# Altium schematic symbol library WR-TBL_Rising Cage Clamp.SchLib: 433 symbols (part 4 of 8)
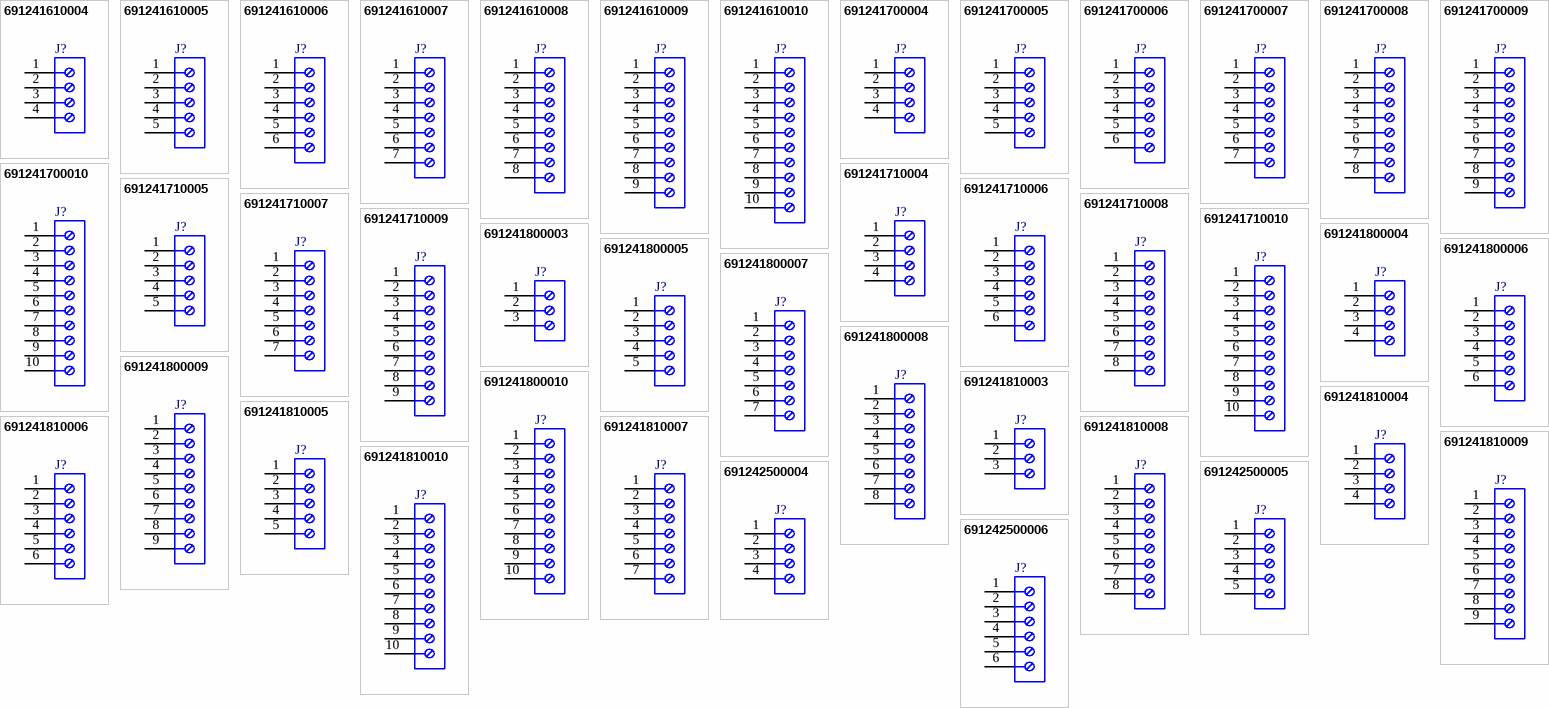
[diagram p13: symbols 691241610004 to 691242500006]

## 691241800006
designator J?  (value not drawn)
WR-TBL Series 2418 Vertical Entry, THT, pitch 10mm, 06p; Manufacturer: Wurth Elektronik; Modularity: No; Rated Current: 14A; Wire Section: 14 to 30 (AWG) 2.08 to 0.0509 (mm^2); Working Voltage: 300V (AC); Manufacturer Part Number: 691241800006; Product Series: WR-TBL; ComponentLink1Description: Website Link; ComponentLink1URL: https://www.we-online.com; ComponentLink2Description: Datasheet Link; ComponentLink2URL: https://www.we-online.com/components/products/datasheet/691241800006; Mount: Through Hole; Operating Temperature Min: -30degC; Operating Temperature Max: 120degC; Packaging: Box; Application: Rising Cage Clamp; Number of Pins: 6; Number of Rows: 1; Orientation: Vertical; Lead Pitch: 10mm
footprint 691241800006
pins: 1, 2, 3, 4, 5, 6

## 691241800007
designator J?  (value not drawn)
WR-TBL Series 2418 Vertical Entry, THT, pitch 10mm, 07p; Manufacturer: Wurth Elektronik; Modularity: No; Rated Current: 14A; Wire Section: 14 to 30 (AWG) 2.08 to 0.0509 (mm^2); Working Voltage: 300V (AC); Manufacturer Part Number: 691241800007; Product Series: WR-TBL; ComponentLink1Description: Website Link; ComponentLink1URL: https://www.we-online.com; ComponentLink2Description: Datasheet Link; ComponentLink2URL: https://www.we-online.com/components/products/datasheet/691241800007; Mount: Through Hole; Operating Temperature Min: -30degC; Operating Temperature Max: 120degC; Packaging: Box; Application: Rising Cage Clamp; Number of Pins: 7; Number of Rows: 1; Orientation: Vertical; Lead Pitch: 10mm
footprint 691241800007
pins: 1, 2, 3, 4, 5, 6, 7

## 691241800008
designator J?  (value not drawn)
WR-TBL Series 2418 Vertical Entry, THT, pitch 10mm, 08p; Manufacturer: Wurth Elektronik; Modularity: No; Rated Current: 14A; Wire Section: 14 to 30 (AWG) 2.08 to 0.0509 (mm^2); Working Voltage: 300V (AC); Manufacturer Part Number: 691241800008; Product Series: WR-TBL; ComponentLink1Description: Website Link; ComponentLink1URL: https://www.we-online.com; ComponentLink2Description: Datasheet Link; ComponentLink2URL: https://www.we-online.com/components/products/datasheet/691241800008; Mount: Through Hole; Operating Temperature Min: -30degC; Operating Temperature Max: 120degC; Packaging: Box; Application: Rising Cage Clamp; Number of Pins: 8; Number of Rows: 1; Orientation: Vertical; Lead Pitch: 10mm
footprint 691241800008
pins: 1, 2, 3, 4, 5, 6, 7, 8

## 691241800009
designator J?  (value not drawn)
WR-TBL Series 2418 Vertical Entry, THT, pitch 10mm, 09p; Manufacturer: Wurth Elektronik; Modularity: No; Rated Current: 14A; Wire Section: 14 to 30 (AWG) 2.08 to 0.0509 (mm^2); Working Voltage: 300V (AC); Manufacturer Part Number: 691241800009; Product Series: WR-TBL; ComponentLink1Description: Website Link; ComponentLink1URL: https://www.we-online.com; ComponentLink2Description: Datasheet Link; ComponentLink2URL: https://www.we-online.com/components/products/datasheet/691241800009; Mount: Through Hole; Operating Temperature Min: -30degC; Operating Temperature Max: 120degC; Packaging: Box; Application: Rising Cage Clamp; Number of Pins: 9; Number of Rows: 1; Orientation: Vertical; Lead Pitch: 10mm
footprint 691241800009
pins: 1, 2, 3, 4, 5, 6, 7, 8, 9

## 691241800010
designator J?  (value not drawn)
WR-TBL Series 2418 Vertical Entry, THT, pitch 10mm, 10p; Manufacturer: Wurth Elektronik; Modularity: No; Rated Current: 14A; Wire Section: 14 to 30 (AWG) 2.08 to 0.0509 (mm^2); Working Voltage: 300V (AC); Manufacturer Part Number: 691241800010; Product Series: WR-TBL; ComponentLink1Description: Website Link; ComponentLink1URL: https://www.we-online.com; ComponentLink2Description: Datasheet Link; ComponentLink2URL: https://www.we-online.com/components/products/datasheet/691241800010; Mount: Through Hole; Operating Temperature Min: -30degC; Operating Temperature Max: 120degC; Packaging: Box; Application: Rising Cage Clamp; Number of Pins: 10; Number of Rows: 1; Orientation: Vertical; Lead Pitch: 10mm
footprint 691241800010
pins: 1, 2, 3, 4, 5, 6, 7, 8, 9, 10

## 691241810003
designator J?  (value not drawn)
WR-TBL Series 2418 Horizontal Entry, THT, pitch 10mm, 03p; Manufacturer: Wurth Elektronik; Modularity: No; Rated Current: 14A; Wire Section: 14 to 30 (AWG) 2.08 to 0.0509 (mm^2); Working Voltage: 300V (AC); Manufacturer Part Number: 691241810003; Product Series: WR-TBL; ComponentLink1Description: Website Link; ComponentLink1URL: https://www.we-online.com; ComponentLink2Description: Datasheet Link; ComponentLink2URL: https://www.we-online.com/components/products/datasheet/691241810003; Mount: Through Hole; Operating Temperature Min: -30degC; Operating Temperature Max: 120degC; Packaging: Box; Application: Rising Cage Clamp; Number of Pins: 3; Number of Rows: 1; Orientation: Horizontal; Lead Pitch: 10mm
footprint 691241810003
pins: 1, 2, 3

## 691241810004
designator J?  (value not drawn)
WR-TBL Series 2418 Horizontal Entry, THT, pitch 10mm, 04p; Manufacturer: Wurth Elektronik; Modularity: No; Rated Current: 14A; Wire Section: 14 to 30 (AWG) 2.08 to 0.0509 (mm^2); Working Voltage: 300V (AC); Manufacturer Part Number: 691241810004; Product Series: WR-TBL; ComponentLink1Description: Website Link; ComponentLink1URL: https://www.we-online.com; ComponentLink2Description: Datasheet Link; ComponentLink2URL: https://www.we-online.com/components/products/datasheet/691241810004; Mount: Through Hole; Operating Temperature Min: -30degC; Operating Temperature Max: 120degC; Packaging: Box; Application: Rising Cage Clamp; Number of Pins: 4; Number of Rows: 1; Orientation: Horizontal; Lead Pitch: 10mm
footprint 691241810004
pins: 1, 2, 3, 4

## 691241810005
designator J?  (value not drawn)
WR-TBL Series 2418 Horizontal Entry, THT, pitch 10mm, 05p; Manufacturer: Wurth Elektronik; Modularity: No; Rated Current: 14A; Wire Section: 14 to 30 (AWG) 2.08 to 0.0509 (mm^2); Working Voltage: 300V (AC); Manufacturer Part Number: 691241810005; Product Series: WR-TBL; ComponentLink1Description: Website Link; ComponentLink1URL: https://www.we-online.com; ComponentLink2Description: Datasheet Link; ComponentLink2URL: https://www.we-online.com/components/products/datasheet/691241810005; Mount: Through Hole; Operating Temperature Min: -30degC; Operating Temperature Max: 120degC; Packaging: Box; Application: Rising Cage Clamp; Number of Pins: 5; Number of Rows: 1; Orientation: Horizontal; Lead Pitch: 10mm
footprint 691241810005
pins: 1, 2, 3, 4, 5

## 691241810006
designator J?  (value not drawn)
WR-TBL Series 2418 Horizontal Entry, THT, pitch 10mm, 06p; Manufacturer: Wurth Elektronik; Modularity: No; Rated Current: 14A; Wire Section: 14 to 30 (AWG) 2.08 to 0.0509 (mm^2); Working Voltage: 300V (AC); Manufacturer Part Number: 691241810006; Product Series: WR-TBL; ComponentLink1Description: Website Link; ComponentLink1URL: https://www.we-online.com; ComponentLink2Description: Datasheet Link; ComponentLink2URL: https://www.we-online.com/components/products/datasheet/691241810006; Mount: Through Hole; Operating Temperature Min: -30degC; Operating Temperature Max: 120degC; Packaging: Box; Application: Rising Cage Clamp; Number of Pins: 6; Number of Rows: 1; Orientation: Horizontal; Lead Pitch: 10mm
footprint 691241810006
pins: 1, 2, 3, 4, 5, 6

## 691241810007
designator J?  (value not drawn)
WR-TBL Series 2418 Horizontal Entry, THT, pitch 10mm, 07p; Manufacturer: Wurth Elektronik; Modularity: No; Rated Current: 14A; Wire Section: 14 to 30 (AWG) 2.08 to 0.0509 (mm^2); Working Voltage: 300V (AC); Manufacturer Part Number: 691241810007; Product Series: WR-TBL; ComponentLink1Description: Website Link; ComponentLink1URL: https://www.we-online.com; ComponentLink2Description: Datasheet Link; ComponentLink2URL: https://www.we-online.com/components/products/datasheet/691241810007; Mount: Through Hole; Operating Temperature Min: -30degC; Operating Temperature Max: 120degC; Packaging: Box; Application: Rising Cage Clamp; Number of Pins: 7; Number of Rows: 1; Orientation: Horizontal; Lead Pitch: 10mm
footprint 691241810007
pins: 1, 2, 3, 4, 5, 6, 7

## 691241810008
designator J?  (value not drawn)
WR-TBL Series 2418 Horizontal Entry, THT, pitch 10mm, 08p; Manufacturer: Wurth Elektronik; Modularity: No; Rated Current: 14A; Wire Section: 14 to 30 (AWG) 2.08 to 0.0509 (mm^2); Working Voltage: 300V (AC); Manufacturer Part Number: 691241810008; Product Series: WR-TBL; ComponentLink1Description: Website Link; ComponentLink1URL: https://www.we-online.com; ComponentLink2Description: Datasheet Link; ComponentLink2URL: https://www.we-online.com/components/products/datasheet/691241810008; Mount: Through Hole; Operating Temperature Min: -30degC; Operating Temperature Max: 120degC; Packaging: Box; Application: Rising Cage Clamp; Number of Pins: 8; Number of Rows: 1; Orientation: Horizontal; Lead Pitch: 10mm
footprint 691241810008
pins: 1, 2, 3, 4, 5, 6, 7, 8

## 691241810009
designator J?  (value not drawn)
WR-TBL Series 2418 Horizontal Entry, THT, pitch 10mm, 09p; Manufacturer: Wurth Elektronik; Modularity: No; Rated Current: 14A; Wire Section: 14 to 30 (AWG) 2.08 to 0.0509 (mm^2); Working Voltage: 300V (AC); Manufacturer Part Number: 691241810009; Product Series: WR-TBL; ComponentLink1Description: Website Link; ComponentLink1URL: https://www.we-online.com; ComponentLink2Description: Datasheet Link; ComponentLink2URL: https://www.we-online.com/components/products/datasheet/691241810009; Mount: Through Hole; Operating Temperature Min: -30degC; Operating Temperature Max: 120degC; Packaging: Box; Application: Rising Cage Clamp; Number of Pins: 9; Number of Rows: 1; Orientation: Horizontal; Lead Pitch: 10mm
footprint 691241810009
pins: 1, 2, 3, 4, 5, 6, 7, 8, 9

## 691241810010
designator J?  (value not drawn)
WR-TBL Series 2418 Horizontal Entry, THT, pitch 10mm, 10p; Manufacturer: Wurth Elektronik; Modularity: No; Rated Current: 14A; Wire Section: 14 to 30 (AWG) 2.08 to 0.0509 (mm^2); Working Voltage: 300V (AC); Manufacturer Part Number: 691241810010; Product Series: WR-TBL; ComponentLink1Description: Website Link; ComponentLink1URL: https://www.we-online.com; ComponentLink2Description: Datasheet Link; ComponentLink2URL: https://www.we-online.com/components/products/datasheet/691241810010; Mount: Through Hole; Operating Temperature Min: -30degC; Operating Temperature Max: 120degC; Packaging: Box; Application: Rising Cage Clamp; Number of Pins: 10; Number of Rows: 1; Orientation: Horizontal; Lead Pitch: 10mm
footprint 691241810010
pins: 1, 2, 3, 4, 5, 6, 7, 8, 9, 10

## 691242500004
designator J?  (value not drawn)
WR-TBL Series 2425 Vertical Entry, THT, pitch 5.08mm, 04p; Manufacturer: Wurth Elektronik; Modularity: No; Rated Current: 14A; Wire Section: 12 to 30 (AWG) 3.31 to 0.0509 (mm^2); Working Voltage: 300V (AC); Manufacturer Part Number: 691242500004; Product Series: WR-TBL; ComponentLink1Description: Website Link; ComponentLink1URL: https://www.we-online.com; ComponentLink2Description: Datasheet Link; ComponentLink2URL: https://www.we-online.com/components/products/datasheet/691242500004; Mount: Through Hole; Operating Temperature Min: -30degC; Operating Temperature Max: 120degC; Packaging: Box; Application: Rising Cage Clamp; Number of Pins: 4; Number of Rows: 1; Orientation: Vertical; Lead Pitch: 5.08mm
footprint 691242500004
pins: 1, 2, 3, 4

## 691242500005
designator J?  (value not drawn)
WR-TBL Series 2425 Vertical Entry, THT, pitch 5.08mm, 05p; Manufacturer: Wurth Elektronik; Modularity: No; Rated Current: 14A; Wire Section: 12 to 30 (AWG) 3.31 to 0.0509 (mm^2); Working Voltage: 300V (AC); Manufacturer Part Number: 691242500005; Product Series: WR-TBL; ComponentLink1Description: Website Link; ComponentLink1URL: https://www.we-online.com; ComponentLink2Description: Datasheet Link; ComponentLink2URL: https://www.we-online.com/components/products/datasheet/691242500005; Mount: Through Hole; Operating Temperature Min: -30degC; Operating Temperature Max: 120degC; Packaging: Box; Application: Rising Cage Clamp; Number of Pins: 5; Number of Rows: 1; Orientation: Vertical; Lead Pitch: 5.08mm
footprint 691242500005
pins: 1, 2, 3, 4, 5

## 691242500006
designator J?  (value not drawn)
WR-TBL Series 2425 Vertical Entry, THT, pitch 5.08mm, 06p; Manufacturer: Wurth Elektronik; Modularity: No; Rated Current: 14A; Wire Section: 12 to 30 (AWG) 3.31 to 0.0509 (mm^2); Working Voltage: 300V (AC); Manufacturer Part Number: 691242500006; Product Series: WR-TBL; ComponentLink1Description: Website Link; ComponentLink1URL: https://www.we-online.com; ComponentLink2Description: Datasheet Link; ComponentLink2URL: https://www.we-online.com/components/products/datasheet/691242500006; Mount: Through Hole; Operating Temperature Min: -30degC; Operating Temperature Max: 120degC; Packaging: Box; Application: Rising Cage Clamp; Number of Pins: 6; Number of Rows: 1; Orientation: Vertical; Lead Pitch: 5.08mm
footprint 691242500006
pins: 1, 2, 3, 4, 5, 6

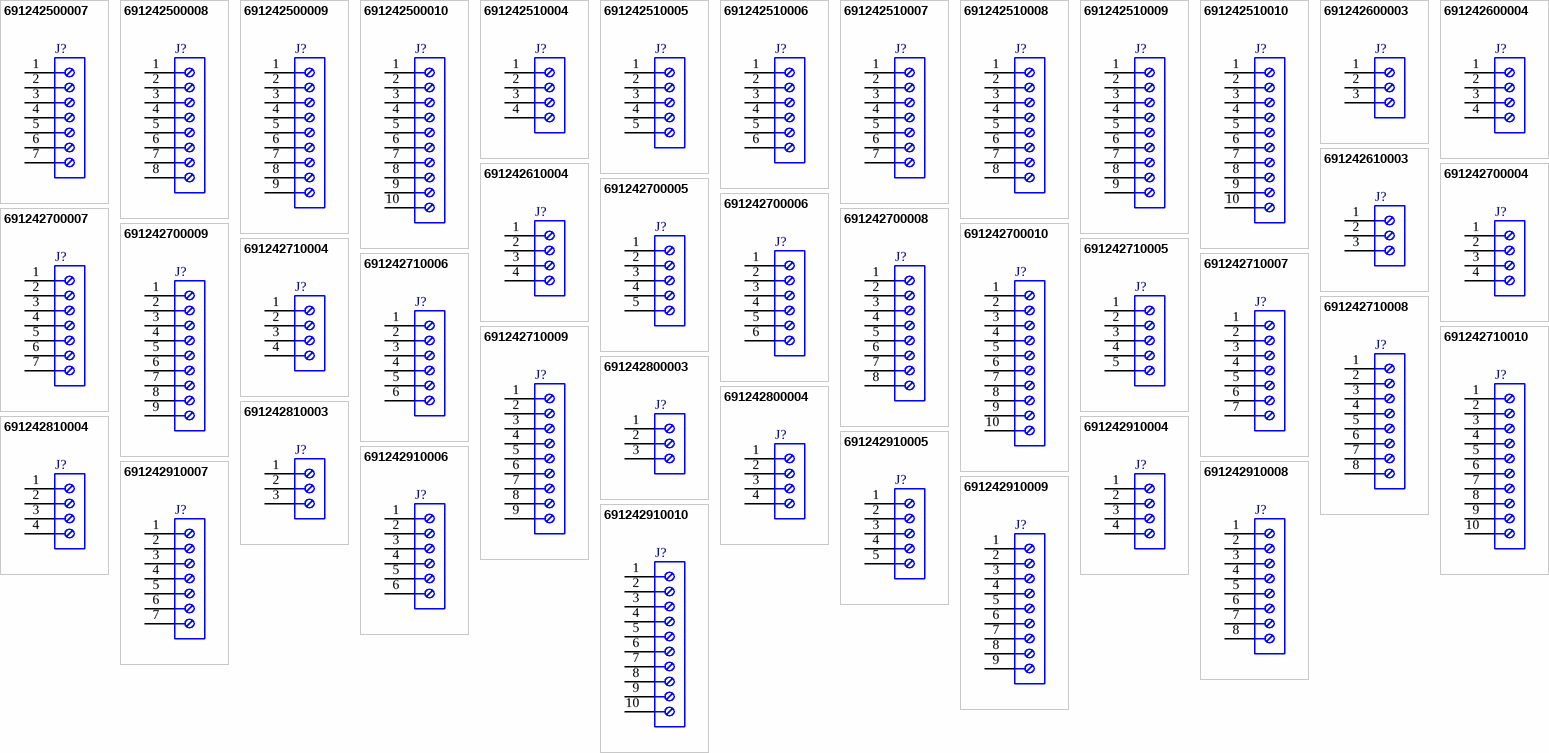
[diagram p5: symbols 691242500007 to 691242910010]

## 691242500007
designator J?  (value not drawn)
WR-TBL Series 2425 Vertical Entry, THT, pitch 5.08mm, 07p; Manufacturer: Wurth Elektronik; Modularity: No; Rated Current: 14A; Wire Section: 12 to 30 (AWG) 3.31 to 0.0509 (mm^2); Working Voltage: 300V (AC); Manufacturer Part Number: 691242500007; Product Series: WR-TBL; ComponentLink1Description: Website Link; ComponentLink1URL: https://www.we-online.com; ComponentLink2Description: Datasheet Link; ComponentLink2URL: https://www.we-online.com/components/products/datasheet/691242500007; Mount: Through Hole; Operating Temperature Min: -30degC; Operating Temperature Max: 120degC; Packaging: Box; Application: Rising Cage Clamp; Number of Pins: 7; Number of Rows: 1; Orientation: Vertical; Lead Pitch: 5.08mm
footprint 691242500007
pins: 1, 2, 3, 4, 5, 6, 7

## 691242500008
designator J?  (value not drawn)
WR-TBL Series 2425 Vertical Entry, THT, pitch 5.08mm, 08p; Manufacturer: Wurth Elektronik; Modularity: No; Rated Current: 14A; Wire Section: 12 to 30 (AWG) 3.31 to 0.0509 (mm^2); Working Voltage: 300V (AC); Manufacturer Part Number: 691242500008; Product Series: WR-TBL; ComponentLink1Description: Website Link; ComponentLink1URL: https://www.we-online.com; ComponentLink2Description: Datasheet Link; ComponentLink2URL: https://www.we-online.com/components/products/datasheet/691242500008; Mount: Through Hole; Operating Temperature Min: -30degC; Operating Temperature Max: 120degC; Packaging: Box; Application: Rising Cage Clamp; Number of Pins: 8; Number of Rows: 1; Orientation: Vertical; Lead Pitch: 5.08mm
footprint 691242500008
pins: 1, 2, 3, 4, 5, 6, 7, 8

## 691242500009
designator J?  (value not drawn)
WR-TBL Series 2425 Vertical Entry, THT, pitch 5.08mm, 09p; Manufacturer: Wurth Elektronik; Modularity: No; Rated Current: 14A; Wire Section: 12 to 30 (AWG) 3.31 to 0.0509 (mm^2); Working Voltage: 300V (AC); Manufacturer Part Number: 691242500009; Product Series: WR-TBL; ComponentLink1Description: Website Link; ComponentLink1URL: https://www.we-online.com; ComponentLink2Description: Datasheet Link; ComponentLink2URL: https://www.we-online.com/components/products/datasheet/691242500009; Mount: Through Hole; Operating Temperature Min: -30degC; Operating Temperature Max: 120degC; Packaging: Box; Application: Rising Cage Clamp; Number of Pins: 9; Number of Rows: 1; Orientation: Vertical; Lead Pitch: 5.08mm
footprint 691242500009
pins: 1, 2, 3, 4, 5, 6, 7, 8, 9

## 691242500010
designator J?  (value not drawn)
WR-TBL Series 2425 Vertical Entry, THT, pitch 5.08mm, 10p; Manufacturer: Wurth Elektronik; Modularity: No; Rated Current: 14A; Wire Section: 12 to 30 (AWG) 3.31 to 0.0509 (mm^2); Working Voltage: 300V (AC); Manufacturer Part Number: 691242500010; Product Series: WR-TBL; ComponentLink1Description: Website Link; ComponentLink1URL: https://www.we-online.com; ComponentLink2Description: Datasheet Link; ComponentLink2URL: https://www.we-online.com/components/products/datasheet/691242500010; Mount: Through Hole; Operating Temperature Min: -30degC; Operating Temperature Max: 120degC; Packaging: Box; Application: Rising Cage Clamp; Number of Pins: 10; Number of Rows: 1; Orientation: Vertical; Lead Pitch: 5.08mm
footprint 691242500010
pins: 1, 2, 3, 4, 5, 6, 7, 8, 9, 10

## 691242510004
designator J?  (value not drawn)
WR-TBL Series 2425 Horizontal Entry Modular, THT, pitch 5.08mm, 04p; Manufacturer: Wurth Elektronik; Modularity: No; Rated Current: 14A; Wire Section: 12 to 30 (AWG) 3.31 to 0.0509 (mm^2); Working Voltage: 300V (AC); Manufacturer Part Number: 691242510004; Product Series: WR-TBL; ComponentLink1Description: Website Link; ComponentLink1URL: https://www.we-online.com; ComponentLink2Description: Datasheet Link; ComponentLink2URL: https://www.we-online.com/components/products/datasheet/691242510004; Mount: Through Hole; Operating Temperature Min: -30degC; Operating Temperature Max: 120degC; Packaging: Box; Application: Rising Cage Clamp; Number of Pins: 4; Number of Rows: 1; Orientation: Horizontal; Lead Pitch: 5.08mm
footprint 691242510004
pins: 1, 2, 3, 4

## 691242510005
designator J?  (value not drawn)
WR-TBL Series 2425 Horizontal Entry Modular, THT, pitch 5.08mm, 05p; Manufacturer: Wurth Elektronik; Modularity: No; Rated Current: 14A; Wire Section: 12 to 30 (AWG) 3.31 to 0.0509 (mm^2); Working Voltage: 300V (AC); Manufacturer Part Number: 691242510005; Product Series: WR-TBL; ComponentLink1Description: Website Link; ComponentLink1URL: https://www.we-online.com; ComponentLink2Description: Datasheet Link; ComponentLink2URL: https://www.we-online.com/components/products/datasheet/691242510005; Mount: Through Hole; Operating Temperature Min: -30degC; Operating Temperature Max: 120degC; Packaging: Box; Application: Rising Cage Clamp; Number of Pins: 5; Number of Rows: 1; Orientation: Horizontal; Lead Pitch: 5.08mm
footprint 691242510005
pins: 1, 2, 3, 4, 5

## 691242510006
designator J?  (value not drawn)
WR-TBL Series 2425 Horizontal Entry Modular, THT, pitch 5.08mm, 06p; Manufacturer: Wurth Elektronik; Modularity: No; Rated Current: 14A; Wire Section: 12 to 30 (AWG) 3.31 to 0.0509 (mm^2); Working Voltage: 300V (AC); Manufacturer Part Number: 691242510006; Product Series: WR-TBL; ComponentLink1Description: Website Link; ComponentLink1URL: https://www.we-online.com; ComponentLink2Description: Datasheet Link; ComponentLink2URL: https://www.we-online.com/components/products/datasheet/691242510006; Mount: Through Hole; Operating Temperature Min: -30degC; Operating Temperature Max: 120degC; Packaging: Box; Application: Rising Cage Clamp; Number of Pins: 6; Number of Rows: 1; Orientation: Horizontal; Lead Pitch: 5.08mm
footprint 691242510006
pins: 1, 2, 3, 4, 5, 6

## 691242510007
designator J?  (value not drawn)
WR-TBL Series 2425 Horizontal Entry Modular, THT, pitch 5.08mm, 07p; Manufacturer: Wurth Elektronik; Modularity: No; Rated Current: 14A; Wire Section: 12 to 30 (AWG) 3.31 to 0.0509 (mm^2); Working Voltage: 300V (AC); Manufacturer Part Number: 691242510007; Product Series: WR-TBL; ComponentLink1Description: Website Link; ComponentLink1URL: https://www.we-online.com; ComponentLink2Description: Datasheet Link; ComponentLink2URL: https://www.we-online.com/components/products/datasheet/691242510007; Mount: Through Hole; Operating Temperature Min: -30degC; Operating Temperature Max: 120degC; Packaging: Box; Application: Rising Cage Clamp; Number of Pins: 7; Number of Rows: 1; Orientation: Horizontal; Lead Pitch: 5.08mm
footprint 691242510007
pins: 1, 2, 3, 4, 5, 6, 7

## 691242510008
designator J?  (value not drawn)
WR-TBL Series 2425 Horizontal Entry Modular, THT, pitch 5.08mm, 08p; Manufacturer: Wurth Elektronik; Modularity: No; Rated Current: 14A; Wire Section: 12 to 30 (AWG) 3.31 to 0.0509 (mm^2); Working Voltage: 300V (AC); Manufacturer Part Number: 691242510008; Product Series: WR-TBL; ComponentLink1Description: Website Link; ComponentLink1URL: https://www.we-online.com; ComponentLink2Description: Datasheet Link; ComponentLink2URL: https://www.we-online.com/components/products/datasheet/691242510008; Mount: Through Hole; Operating Temperature Min: -30degC; Operating Temperature Max: 120degC; Packaging: Box; Application: Rising Cage Clamp; Number of Pins: 8; Number of Rows: 1; Orientation: Horizontal; Lead Pitch: 5.08mm
footprint 691242510008
pins: 1, 2, 3, 4, 5, 6, 7, 8

## 691242510009
designator J?  (value not drawn)
WR-TBL Series 2425 Horizontal Entry Modular, THT, pitch 5.08mm, 09p; Manufacturer: Wurth Elektronik; Modularity: No; Rated Current: 14A; Wire Section: 12 to 30 (AWG) 3.31 to 0.0509 (mm^2); Working Voltage: 300V (AC); Manufacturer Part Number: 691242510009; Product Series: WR-TBL; ComponentLink1Description: Website Link; ComponentLink1URL: https://www.we-online.com; ComponentLink2Description: Datasheet Link; ComponentLink2URL: https://www.we-online.com/components/products/datasheet/691242510009; Mount: Through Hole; Operating Temperature Min: -30degC; Operating Temperature Max: 120degC; Packaging: Box; Application: Rising Cage Clamp; Number of Pins: 9; Number of Rows: 1; Orientation: Horizontal; Lead Pitch: 5.08mm
footprint 691242510009
pins: 1, 2, 3, 4, 5, 6, 7, 8, 9

## 691242510010
designator J?  (value not drawn)
WR-TBL Series 2425 Horizontal Entry Modular, THT, pitch 5.08mm, 10p; Manufacturer: Wurth Elektronik; Modularity: No; Rated Current: 14A; Wire Section: 12 to 30 (AWG) 3.31 to 0.0509 (mm^2); Working Voltage: 300V (AC); Manufacturer Part Number: 691242510010; Product Series: WR-TBL; ComponentLink1Description: Website Link; ComponentLink1URL: https://www.we-online.com; ComponentLink2Description: Datasheet Link; ComponentLink2URL: https://www.we-online.com/components/products/datasheet/691242510010; Mount: Through Hole; Operating Temperature Min: -30degC; Operating Temperature Max: 120degC; Packaging: Box; Application: Rising Cage Clamp; Number of Pins: 10; Number of Rows: 1; Orientation: Horizontal; Lead Pitch: 5.08mm
footprint 691242510010
pins: 1, 2, 3, 4, 5, 6, 7, 8, 9, 10

## 691242600003
designator J?  (value not drawn)
WR-TBL Series 2426 Vertical Entry Modular, THT, pitch 10.16mm, 03p; Manufacturer: Wurth Elektronik; Modularity: No; Rated Current: 14A; Wire Section: 12 to 30 (AWG) 3.31 to 0.0509 (mm^2); Working Voltage: 300V (AC); Manufacturer Part Number: 691242600003; Product Series: WR-TBL; ComponentLink1Description: Website Link; ComponentLink1URL: https://www.we-online.com; ComponentLink2Description: Datasheet Link; ComponentLink2URL: https://www.we-online.com/components/products/datasheet/691242600003; Mount: Through Hole; Operating Temperature Min: -30degC; Operating Temperature Max: 120degC; Packaging: Box; Application: Rising Cage Clamp; Number of Pins: 3; Number of Rows: 1; Orientation: Vertical; Lead Pitch: 10.16mm
footprint 691242600003
pins: 1, 2, 3

## 691242600004
designator J?  (value not drawn)
WR-TBL Series 2426 Vertical Entry Modular, THT, pitch 10.16mm, 04p; Manufacturer: Wurth Elektronik; Modularity: No; Rated Current: 14A; Wire Section: 12 to 30 (AWG) 3.31 to 0.0509 (mm^2); Working Voltage: 300V (AC); Manufacturer Part Number: 691242600004; Product Series: WR-TBL; ComponentLink1Description: Website Link; ComponentLink1URL: https://www.we-online.com; ComponentLink2Description: Datasheet Link; ComponentLink2URL: https://www.we-online.com/components/products/datasheet/691242600004; Mount: Through Hole; Operating Temperature Min: -30degC; Operating Temperature Max: 120degC; Packaging: Box; Application: Rising Cage Clamp; Number of Pins: 4; Number of Rows: 1; Orientation: Vertical; Lead Pitch: 10.16mm
footprint 691242600004
pins: 1, 2, 3, 4

## 691242610003
designator J?  (value not drawn)
WR-TBL Series 2426 Horizontal Entry Modular, SMT, pitch 10.16mm, 03p; Manufacturer: Wurth Elektronik; Modularity: Yes; Rated Current: 14A; Wire Section: 12 to 30 (AWG) 3.31 to 0.0509 (mm^2); Working Voltage: 300V (AC); Manufacturer Part Number: 691242610003; Product Series: WR-TBL; ComponentLink1Description: Website Link; ComponentLink1URL: https://www.we-online.com; ComponentLink2Description: Datasheet Link; ComponentLink2URL: https://www.we-online.com/components/products/datasheet/691242610003; Mount: Through Hole; Operating Temperature Min: -30degC; Operating Temperature Max: 120degC; Packaging: Box; Application: Rising Cage Clamp; Number of Pins: 3; Number of Rows: 1; Orientation: Horizontal; Lead Pitch: 10.16mm
footprint 691242610003
pins: 1, 2, 3

## 691242610004
designator J?  (value not drawn)
WR-TBL Series 2426 Horizontal Entry Modular, THT, pitch 10.16mm, 04p; Manufacturer: Wurth Elektronik; Modularity: Yes; Rated Current: 14A; Wire Section: 12 to 30 (AWG) 3.31 to 0.0509 (mm^2); Working Voltage: 300V (AC); Manufacturer Part Number: 691242610004; Product Series: WR-TBL; ComponentLink1Description: Website Link; ComponentLink1URL: https://www.we-online.com; ComponentLink2Description: Datasheet Link; ComponentLink2URL: https://www.we-online.com/components/products/datasheet/691242610004; Mount: Through Hole; Operating Temperature Min: -30degC; Operating Temperature Max: 120degC; Packaging: Box; Application: Rising Cage Clamp; Number of Pins: 4; Number of Rows: 1; Orientation: Horizontal; Lead Pitch: 10.16mm
footprint 691242610004
pins: 1, 2, 3, 4

## 691242700004
designator J?  (value not drawn)
WR-TBL Series 2427 Vertical Entry, THT, pitch 5mm, 04p; Manufacturer: Wurth Elektronik; Modularity: No; Rated Current: 14A; Wire Section: 30 to 12 (AWG) 0.0509 to 3.31 (mm^2); Working Voltage: 300V (AC); Manufacturer Part Number: 691242700004; Product Series: WR-TBL; ComponentLink1Description: Website Link; ComponentLink1URL: https://www.we-online.com; ComponentLink2Description: Datasheet Link; ComponentLink2URL: https://www.we-online.com/components/products/datasheet/691242700004; Mount: Through Hole; Operating Temperature Min: -30degC; Operating Temperature Max: 120degC; Packaging: Box; Application: Rising Cage Clamp; Number of Pins: 4; Number of Rows: 1; Orientation: Vertical; Lead Pitch: 5mm
footprint 691242700004
pins: 1, 2, 3, 4

## 691242700005
designator J?  (value not drawn)
WR-TBL Series 2427 Vertical Entry, THT, pitch 5mm, 05p; Manufacturer: Wurth Elektronik; Modularity: No; Rated Current: 14A; Wire Section: 30 to 12 (AWG) 0.0509 to 3.31 (mm^2); Working Voltage: 300V (AC); Manufacturer Part Number: 691242700005; Product Series: WR-TBL; ComponentLink1Description: Website Link; ComponentLink1URL: https://www.we-online.com; ComponentLink2Description: Datasheet Link; ComponentLink2URL: https://www.we-online.com/components/products/datasheet/691242700005; Mount: Through Hole; Operating Temperature Min: -30degC; Operating Temperature Max: 120degC; Packaging: Box; Application: Rising Cage Clamp; Number of Pins: 5; Number of Rows: 1; Orientation: Vertical; Lead Pitch: 5mm
footprint 691242700005
pins: 1, 2, 3, 4, 5

## 691242700006
designator J?  (value not drawn)
WR-TBL Series 2427 Vertical Entry, THT, pitch 5mm, 06p; Manufacturer: Wurth Elektronik; Modularity: No; Rated Current: 14A; Wire Section: 30 to 12 (AWG) 0.0509 to 3.31 (mm^2); Working Voltage: 300V (AC); Manufacturer Part Number: 691242700006; Product Series: WR-TBL; ComponentLink1Description: Website Link; ComponentLink1URL: https://www.we-online.com; ComponentLink2Description: Datasheet Link; ComponentLink2URL: https://www.we-online.com/components/products/datasheet/691242700006; Mount: Through Hole; Operating Temperature Min: -30degC; Operating Temperature Max: 120degC; Packaging: Box; Application: Rising Cage Clamp; Number of Pins: 6; Number of Rows: 1; Orientation: Vertical; Lead Pitch: 5mm
footprint 691242700006
pins: 1, 2, 3, 4, 5, 6

## 691242700007
designator J?  (value not drawn)
WR-TBL Series 2427 Vertical Entry, THT, pitch 5mm, 07p; Manufacturer: Wurth Elektronik; Modularity: No; Rated Current: 14A; Wire Section: 30 to 12 (AWG) 0.0509 to 3.31 (mm^2); Working Voltage: 300V (AC); Manufacturer Part Number: 691242700007; Product Series: WR-TBL; ComponentLink1Description: Website Link; ComponentLink1URL: https://www.we-online.com; ComponentLink2Description: Datasheet Link; ComponentLink2URL: https://www.we-online.com/components/products/datasheet/691242700007; Mount: Through Hole; Operating Temperature Min: -30degC; Operating Temperature Max: 120degC; Packaging: Box; Application: Rising Cage Clamp; Number of Pins: 7; Number of Rows: 1; Orientation: Vertical; Lead Pitch: 5mm
footprint 691242700007
pins: 1, 2, 3, 4, 5, 6, 7

## 691242700008
designator J?  (value not drawn)
WR-TBL Series 2427 Vertical Entry, THT, pitch 5mm, 08p; Manufacturer: Wurth Elektronik; Modularity: No; Rated Current: 14A; Wire Section: 30 to 12 (AWG) 0.0509 to 3.31 (mm^2); Working Voltage: 300V (AC); Manufacturer Part Number: 691242700008; Product Series: WR-TBL; ComponentLink1Description: Website Link; ComponentLink1URL: https://www.we-online.com; ComponentLink2Description: Datasheet Link; ComponentLink2URL: https://www.we-online.com/components/products/datasheet/691242700008; Mount: Through Hole; Operating Temperature Min: -30degC; Operating Temperature Max: 120degC; Packaging: Box; Application: Rising Cage Clamp; Number of Pins: 8; Number of Rows: 1; Orientation: Vertical; Lead Pitch: 5mm
footprint 691242700008
pins: 1, 2, 3, 4, 5, 6, 7, 8

## 691242700009
designator J?  (value not drawn)
WR-TBL Series 2427 Vertical Entry, THT, pitch 5mm, 09p; Manufacturer: Wurth Elektronik; Modularity: No; Rated Current: 14A; Wire Section: 30 to 12 (AWG) 0.0509 to 3.31 (mm^2); Working Voltage: 300V (AC); Manufacturer Part Number: 691242700009; Product Series: WR-TBL; ComponentLink1Description: Website Link; ComponentLink1URL: https://www.we-online.com; ComponentLink2Description: Datasheet Link; ComponentLink2URL: https://www.we-online.com/components/products/datasheet/691242700009; Mount: Through Hole; Operating Temperature Min: -30degC; Operating Temperature Max: 120degC; Packaging: Box; Application: Rising Cage Clamp; Number of Pins: 9; Number of Rows: 1; Orientation: Vertical; Lead Pitch: 5mm
footprint 691242700009
pins: 1, 2, 3, 4, 5, 6, 7, 8, 9

## 691242700010
designator J?  (value not drawn)
WR-TBL Series 2427 Vertical Entry, THT, pitch 5mm, 10p; Manufacturer: Wurth Elektronik; Modularity: No; Rated Current: 14A; Wire Section: 30 to 12 (AWG) 0.0509 to 3.31 (mm^2); Working Voltage: 300V (AC); Manufacturer Part Number: 691242700010; Product Series: WR-TBL; ComponentLink1Description: Website Link; ComponentLink1URL: https://www.we-online.com; ComponentLink2Description: Datasheet Link; ComponentLink2URL: https://www.we-online.com/components/products/datasheet/691242700010; Mount: Through Hole; Operating Temperature Min: -30degC; Operating Temperature Max: 120degC; Packaging: Box; Application: Rising Cage Clamp; Number of Pins: 10; Number of Rows: 1; Orientation: Vertical; Lead Pitch: 5mm
footprint 691242700010
pins: 1, 2, 3, 4, 5, 6, 7, 8, 9, 10

## 691242710004
designator J?  (value not drawn)
WR-TBL Series 2427 Horizontal Entry Modular, THT, pitch 5mm, 04p; Manufacturer: Wurth Elektronik; Modularity: Yes; Rated Current: 14A; Wire Section: 30 to 12 (AWG) 0.0509 to 3.31 (mm^2); Working Voltage: 300V (AC); Manufacturer Part Number: 691242710004; Product Series: WR-TBL; ComponentLink1Description: Website Link; ComponentLink1URL: https://www.we-online.com; ComponentLink2Description: Datasheet Link; ComponentLink2URL: https://www.we-online.com/components/products/datasheet/691242710004; Mount: Through Hole; Operating Temperature Min: -30degC; Operating Temperature Max: 120degC; Packaging: Box; Application: Rising Cage Clamp; Number of Pins: 4; Number of Rows: 1; Orientation: Horizontal; Lead Pitch: 5mm
footprint 691242710004
pins: 1, 2, 3, 4

## 691242710005
designator J?  (value not drawn)
WR-TBL Series 2427 Horizontal Entry Modular, THT, pitch 5mm, 05p; Manufacturer: Wurth Elektronik; Modularity: Yes; Rated Current: 14A; Wire Section: 30 to 12 (AWG) 0.0509 to 3.31 (mm^2); Working Voltage: 300V (AC); Manufacturer Part Number: 691242710005; Product Series: WR-TBL; ComponentLink1Description: Website Link; ComponentLink1URL: https://www.we-online.com; ComponentLink2Description: Datasheet Link; ComponentLink2URL: https://www.we-online.com/components/products/datasheet/691242710005; Mount: Through Hole; Operating Temperature Min: -30degC; Operating Temperature Max: 120degC; Packaging: Box; Application: Rising Cage Clamp; Number of Pins: 5; Number of Rows: 1; Orientation: Horizontal; Lead Pitch: 5mm
footprint 691242710005
pins: 1, 2, 3, 4, 5

## 691242710006
designator J?  (value not drawn)
WR-TBL Series 2427 Horizontal Entry Modular, THT, pitch 5mm, 06p; Manufacturer: Wurth Elektronik; Modularity: Yes; Rated Current: 14A; Wire Section: 30 to 12 (AWG) 0.0509 to 3.31 (mm^2); Working Voltage: 300V (AC); Manufacturer Part Number: 691242710006; Product Series: WR-TBL; ComponentLink1Description: Website Link; ComponentLink1URL: https://www.we-online.com; ComponentLink2Description: Datasheet Link; ComponentLink2URL: https://www.we-online.com/components/products/datasheet/691242710006; Mount: Through Hole; Operating Temperature Min: -30degC; Operating Temperature Max: 120degC; Packaging: Box; Application: Rising Cage Clamp; Number of Pins: 6; Number of Rows: 1; Orientation: Horizontal; Lead Pitch: 5mm
footprint 691242710006
pins: 1, 2, 3, 4, 5, 6

## 691242710007
designator J?  (value not drawn)
WR-TBL Series 2427 Horizontal Entry Modular, THT, pitch 5mm, 07p; Manufacturer: Wurth Elektronik; Modularity: Yes; Rated Current: 14A; Wire Section: 30 to 12 (AWG) 0.0509 to 3.31 (mm^2); Working Voltage: 300V (AC); Manufacturer Part Number: 691242710007; Product Series: WR-TBL; ComponentLink1Description: Website Link; ComponentLink1URL: https://www.we-online.com; ComponentLink2Description: Datasheet Link; ComponentLink2URL: https://www.we-online.com/components/products/datasheet/691242710007; Mount: Through Hole; Operating Temperature Min: -30degC; Operating Temperature Max: 120degC; Packaging: Box; Application: Rising Cage Clamp; Number of Pins: 7; Number of Rows: 1; Orientation: Horizontal; Lead Pitch: 5mm
footprint 691242710007
pins: 1, 2, 3, 4, 5, 6, 7

## 691242710008
designator J?  (value not drawn)
WR-TBL Series 2427 Horizontal Entry Modular, THT, pitch 5mm, 08p; Manufacturer: Wurth Elektronik; Modularity: Yes; Rated Current: 14A; Wire Section: 30 to 12 (AWG) 0.0509 to 3.31 (mm^2); Working Voltage: 300V (AC); Manufacturer Part Number: 691242710008; Product Series: WR-TBL; ComponentLink1Description: Website Link; ComponentLink1URL: https://www.we-online.com; ComponentLink2Description: Datasheet Link; ComponentLink2URL: https://www.we-online.com/components/products/datasheet/691242710008; Mount: Through Hole; Operating Temperature Min: -30degC; Operating Temperature Max: 120degC; Packaging: Box; Application: Rising Cage Clamp; Number of Pins: 8; Number of Rows: 1; Orientation: Horizontal; Lead Pitch: 5mm
footprint 691242710008
pins: 1, 2, 3, 4, 5, 6, 7, 8

## 691242710009
designator J?  (value not drawn)
WR-TBL Series 2427 Horizontal Entry Modular, THT, pitch 5mm, 09p; Manufacturer: Wurth Elektronik; Modularity: Yes; Rated Current: 14A; Wire Section: 30 to 12 (AWG) 0.0509 to 3.31 (mm^2); Working Voltage: 300V (AC); Manufacturer Part Number: 691242710009; Product Series: WR-TBL; ComponentLink1Description: Website Link; ComponentLink1URL: https://www.we-online.com; ComponentLink2Description: Datasheet Link; ComponentLink2URL: https://www.we-online.com/components/products/datasheet/691242710009; Mount: Through Hole; Operating Temperature Min: -30degC; Operating Temperature Max: 120degC; Packaging: Box; Application: Rising Cage Clamp; Number of Pins: 9; Number of Rows: 1; Orientation: Horizontal; Lead Pitch: 5mm
footprint 691242710009
pins: 1, 2, 3, 4, 5, 6, 7, 8, 9

## 691242710010
designator J?  (value not drawn)
WR-TBL Series 2427 Horizontal Entry Modular, THT, pitch 5mm, 10p; Manufacturer: Wurth Elektronik; Modularity: Yes; Rated Current: 14A; Wire Section: 30 to 12 (AWG) 0.0509 to 3.31 (mm^2); Working Voltage: 300V (AC); Manufacturer Part Number: 691242710010; Product Series: WR-TBL; ComponentLink1Description: Website Link; ComponentLink1URL: https://www.we-online.com; ComponentLink2Description: Datasheet Link; ComponentLink2URL: https://www.we-online.com/components/products/datasheet/691242710010; Mount: Through Hole; Operating Temperature Min: -30degC; Operating Temperature Max: 120degC; Packaging: Box; Application: Rising Cage Clamp; Number of Pins: 10; Number of Rows: 1; Orientation: Horizontal; Lead Pitch: 5mm
footprint 691242710010
pins: 1, 2, 3, 4, 5, 6, 7, 8, 9, 10

## 691242800003
designator J?  (value not drawn)
WR-TBL Series 2428 Vertical Entry, THT, pitch 10mm, 03p; Manufacturer: Wurth Elektronik; Modularity: No; Rated Current: 14A; Wire Section: 12 to 30 (AWG) 3.31 to 0.0509 (mm^2); Working Voltage: 300V (AC); Manufacturer Part Number: 691242800003; Product Series: WR-TBL; ComponentLink1Description: Website Link; ComponentLink1URL: https://www.we-online.com; ComponentLink2Description: Datasheet Link; ComponentLink2URL: https://www.we-online.com/components/products/datasheet/691242800003; Mount: Through Hole; Operating Temperature Min: -30degC; Operating Temperature Max: 120degC; Packaging: Box; Application: Rising Cage Clamp; Number of Pins: 3; Number of Rows: 1; Orientation: Vertical; Lead Pitch: 10mm
footprint 691242800003
pins: 1, 2, 3

## 691242800004
designator J?  (value not drawn)
WR-TBL Series 2428 Vertical Entry, THT, pitch 10mm, 04p; Manufacturer: Wurth Elektronik; Modularity: No; Rated Current: 14A; Wire Section: 12 to 30 (AWG) 3.31 to 0.0509 (mm^2); Working Voltage: 300V (AC); Manufacturer Part Number: 691242800004; Product Series: WR-TBL; ComponentLink1Description: Website Link; ComponentLink1URL: https://www.we-online.com; ComponentLink2Description: Datasheet Link; ComponentLink2URL: https://www.we-online.com/components/products/datasheet/691242800004; Mount: Through Hole; Operating Temperature Min: -30degC; Operating Temperature Max: 120degC; Packaging: Box; Application: Rising Cage Clamp; Number of Pins: 4; Number of Rows: 1; Orientation: Vertical; Lead Pitch: 10mm
footprint 691242800004
pins: 1, 2, 3, 4

## 691242810003
designator J?  (value not drawn)
WR-TBL Series 2428 Horizontal Entry Modular, THT, pitch 10mm, 03p; Manufacturer: Wurth Elektronik; Modularity: No; Rated Current: 14A; Wire Section: 12 to 30 (AWG) 3.31 to 0.0509 (mm^2); Working Voltage: 300V (AC); Manufacturer Part Number: 691242810003; Product Series: WR-TBL; ComponentLink1Description: Website Link; ComponentLink1URL: https://www.we-online.com; ComponentLink2Description: Datasheet Link; ComponentLink2URL: https://www.we-online.com/components/products/datasheet/691242810003; Mount: Through Hole; Operating Temperature Min: -30degC; Operating Temperature Max: 120degC; Packaging: Box; Application: Rising Cage Clamp; Number of Pins: 3; Number of Rows: 1; Orientation: Horizontal; Lead Pitch: 10mm
footprint 691242810003
pins: 1, 2, 3

## 691242810004
designator J?  (value not drawn)
WR-TBL Series 2428 Horizontal Entry Modular, THT, pitch 10mm, 04p; Manufacturer: Wurth Elektronik; Modularity: No; Rated Current: 14A; Wire Section: 12 to 30 (AWG) 3.31 to 0.0509 (mm^2); Working Voltage: 300V (AC); Manufacturer Part Number: 691242810004; Product Series: WR-TBL; ComponentLink1Description: Website Link; ComponentLink1URL: https://www.we-online.com; ComponentLink2Description: Datasheet Link; ComponentLink2URL: https://www.we-online.com/components/products/datasheet/691242810004; Mount: Through Hole; Operating Temperature Min: -30degC; Operating Temperature Max: 120degC; Packaging: Box; Application: Rising Cage Clamp; Number of Pins: 4; Number of Rows: 1; Orientation: Horizontal; Lead Pitch: 10mm
footprint 691242810004
pins: 1, 2, 3, 4

## 691242910004
designator J?  (value not drawn)
WR-TBL Series 2429 Horizontal Entry Modular, THT, pitch 7.5mm, 04p; Manufacturer: Wurth Elektronik; Modularity: No; Rated Current: 14A; Wire Section: 12 to 30 (AWG) 3.31 to 0.0509 (mm^2); Working Voltage: 300V (AC); Manufacturer Part Number: 691242910004; Product Series: WR-TBL; ComponentLink1Description: Website Link; ComponentLink1URL: https://www.we-online.com; ComponentLink2Description: Datasheet Link; ComponentLink2URL: https://www.we-online.com/components/products/datasheet/691242910004; Mount: Through Hole; Operating Temperature Min: -30degC; Operating Temperature Max: 120degC; Packaging: Box; Application: Rising Cage Clamp; Number of Pins: 4; Number of Rows: 1; Orientation: Horizontal; Lead Pitch: 7.5mm
footprint 691242910004
pins: 1, 2, 3, 4

## 691242910005
designator J?  (value not drawn)
WR-TBL Series 2429 Horizontal Entry Modular, THT, pitch 7.5mm, 05p; Manufacturer: Wurth Elektronik; Modularity: No; Rated Current: 14A; Wire Section: 12 to 30 (AWG) 3.31 to 0.0509 (mm^2); Working Voltage: 300V (AC); Manufacturer Part Number: 691242910005; Product Series: WR-TBL; ComponentLink1Description: Website Link; ComponentLink1URL: https://www.we-online.com; ComponentLink2Description: Datasheet Link; ComponentLink2URL: https://www.we-online.com/components/products/datasheet/691242910005; Mount: Through Hole; Operating Temperature Min: -30degC; Operating Temperature Max: 120degC; Packaging: Box; Application: Rising Cage Clamp; Number of Pins: 5; Number of Rows: 1; Orientation: Horizontal; Lead Pitch: 7.5mm
footprint 691242910005
pins: 1, 2, 3, 4, 5

## 691242910006
designator J?  (value not drawn)
WR-TBL Series 2429 Horizontal Entry Modular, THT, pitch 7.5mm, 06p; Manufacturer: Wurth Elektronik; Modularity: No; Rated Current: 14A; Wire Section: 12 to 30 (AWG) 3.31 to 0.0509 (mm^2); Working Voltage: 300V (AC); Manufacturer Part Number: 691242910006; Product Series: WR-TBL; ComponentLink1Description: Website Link; ComponentLink1URL: https://www.we-online.com; ComponentLink2Description: Datasheet Link; ComponentLink2URL: https://www.we-online.com/components/products/datasheet/691242910006; Mount: Through Hole; Operating Temperature Min: -30degC; Operating Temperature Max: 120degC; Packaging: Box; Application: Rising Cage Clamp; Number of Pins: 6; Number of Rows: 1; Orientation: Horizontal; Lead Pitch: 7.5mm
footprint 691242910006
pins: 1, 2, 3, 4, 5, 6

## 691242910007
designator J?  (value not drawn)
WR-TBL Series 2429 Horizontal Entry Modular, THT, pitch 7.5mm, 07p; Manufacturer: Wurth Elektronik; Modularity: No; Rated Current: 14A; Wire Section: 12 to 30 (AWG) 3.31 to 0.0509 (mm^2); Working Voltage: 300V (AC); Manufacturer Part Number: 691242910007; Product Series: WR-TBL; ComponentLink1Description: Website Link; ComponentLink1URL: https://www.we-online.com; ComponentLink2Description: Datasheet Link; ComponentLink2URL: https://www.we-online.com/components/products/datasheet/691242910007; Mount: Through Hole; Operating Temperature Min: -30degC; Operating Temperature Max: 120degC; Packaging: Box; Application: Rising Cage Clamp; Number of Pins: 7; Number of Rows: 1; Orientation: Horizontal; Lead Pitch: 7.5mm
footprint 691242910007
pins: 1, 2, 3, 4, 5, 6, 7

## 691242910008
designator J?  (value not drawn)
WR-TBL Series 2429 Horizontal Entry Modular, THT, pitch 7.5mm, 08p; Manufacturer: Wurth Elektronik; Modularity: No; Rated Current: 14A; Wire Section: 12 to 30 (AWG) 3.31 to 0.0509 (mm^2); Working Voltage: 300V (AC); Manufacturer Part Number: 691242910008; Product Series: WR-TBL; ComponentLink1Description: Website Link; ComponentLink1URL: https://www.we-online.com; ComponentLink2Description: Datasheet Link; ComponentLink2URL: https://www.we-online.com/components/products/datasheet/691242910008; Mount: Through Hole; Operating Temperature Min: -30degC; Operating Temperature Max: 120degC; Packaging: Box; Application: Rising Cage Clamp; Number of Pins: 8; Number of Rows: 1; Orientation: Horizontal; Lead Pitch: 7.5mm
footprint 691242910008
pins: 1, 2, 3, 4, 5, 6, 7, 8

## 691242910009
designator J?  (value not drawn)
WR-TBL Series 2429 Horizontal Entry Modular, THT, pitch 7.5mm, 09p; Manufacturer: Wurth Elektronik; Modularity: No; Rated Current: 14A; Wire Section: 12 to 30 (AWG) 3.31 to 0.0509 (mm^2); Working Voltage: 300V (AC); Manufacturer Part Number: 691242910009; Product Series: WR-TBL; ComponentLink1Description: Website Link; ComponentLink1URL: https://www.we-online.com; ComponentLink2Description: Datasheet Link; ComponentLink2URL: https://www.we-online.com/components/products/datasheet/691242910009; Mount: Through Hole; Operating Temperature Min: -30degC; Operating Temperature Max: 120degC; Packaging: Box; Application: Rising Cage Clamp; Number of Pins: 9; Number of Rows: 1; Orientation: Horizontal; Lead Pitch: 7.5mm
footprint 691242910009
pins: 1, 2, 3, 4, 5, 6, 7, 8, 9

## 691242910010
designator J?  (value not drawn)
WR-TBL Series 2429 Horizontal Entry Modular, THT, pitch 7.5mm, 10p; Manufacturer: Wurth Elektronik; Modularity: No; Rated Current: 14A; Wire Section: 12 to 30 (AWG) 3.31 to 0.0509 (mm^2); Working Voltage: 300V (AC); Manufacturer Part Number: 691242910010; Product Series: WR-TBL; ComponentLink1Description: Website Link; ComponentLink1URL: https://www.we-online.com; ComponentLink2Description: Datasheet Link; ComponentLink2URL: https://www.we-online.com/components/products/datasheet/691242910010; Mount: Through Hole; Operating Temperature Min: -30degC; Operating Temperature Max: 120degC; Packaging: Box; Application: Rising Cage Clamp; Number of Pins: 10; Number of Rows: 1; Orientation: Horizontal; Lead Pitch: 7.5mm
footprint 691242910010
pins: 1, 2, 3, 4, 5, 6, 7, 8, 9, 10

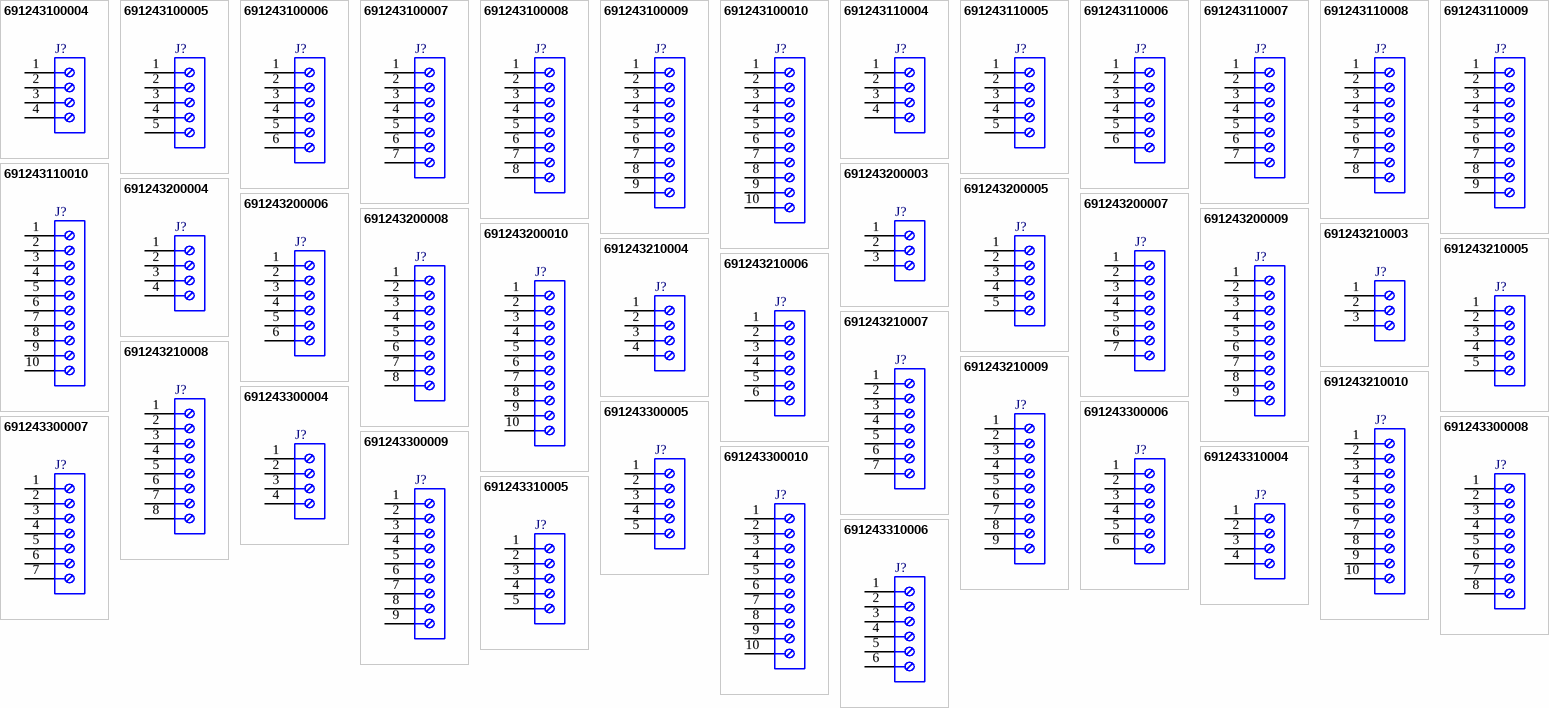
[diagram p6: symbols 691243100004 to 691243310006]

## 691243100004
designator J?  (value not drawn)
WR-TBL Series 2431 Vertical Entry Modular, THT, pitch 3.5mm, 04p; Manufacturer: Wurth Elektronik; Modularity: No; Rated Current: 10A; Wire Section: 30 to 16 (AWG) 0.05 to 1.31 (mm^2); Working Voltage: 300V (AC); Manufacturer Part Number: 691243100004; Product Series: WR-TBL; ComponentLink1Description: Website Link; ComponentLink1URL: https://www.we-online.com; ComponentLink2Description: Datasheet Link; ComponentLink2URL: https://www.we-online.com/components/products/datasheet/691243100004; Mount: Through Hole; Operating Temperature Min: -30degC; Operating Temperature Max: 120degC; Packaging: Box; Application: Rising Cage Clamp; Number of Pins: 4; Number of Rows: 1; Orientation: Vertical; Lead Pitch: 3.5mm
footprint 691243100004
pins: 1, 2, 3, 4

## 691243100005
designator J?  (value not drawn)
WR-TBL Series 2431 Vertical Entry Modular, THT, pitch 3.5mm, 05p; Manufacturer: Wurth Elektronik; Modularity: No; Rated Current: 10A; Wire Section: 30 to 16 (AWG) 0.05 to 1.31 (mm^2); Working Voltage: 300V (AC); Manufacturer Part Number: 691243100005; Product Series: WR-TBL; ComponentLink1Description: Website Link; ComponentLink1URL: https://www.we-online.com; ComponentLink2Description: Datasheet Link; ComponentLink2URL: https://www.we-online.com/components/products/datasheet/691243100005; Mount: Through Hole; Operating Temperature Min: -30degC; Operating Temperature Max: 120degC; Packaging: Box; Application: Rising Cage Clamp; Number of Pins: 5; Number of Rows: 1; Orientation: Vertical; Lead Pitch: 3.5mm
footprint 691243100005
pins: 1, 2, 3, 4, 5

## 691243100006
designator J?  (value not drawn)
WR-TBL Series 2431 Vertical Entry Modular, THT, pitch 3.5mm, 06p; Manufacturer: Wurth Elektronik; Modularity: No; Rated Current: 10A; Wire Section: 30 to 16 (AWG) 0.05 to 1.31 (mm^2); Working Voltage: 300V (AC); Manufacturer Part Number: 691243100006; Product Series: WR-TBL; ComponentLink1Description: Website Link; ComponentLink1URL: https://www.we-online.com; ComponentLink2Description: Datasheet Link; ComponentLink2URL: https://www.we-online.com/components/products/datasheet/691243100006; Mount: Through Hole; Operating Temperature Min: -30degC; Operating Temperature Max: 120degC; Packaging: Box; Application: Rising Cage Clamp; Number of Pins: 6; Number of Rows: 1; Orientation: Vertical; Lead Pitch: 3.5mm
footprint 691243100006
pins: 1, 2, 3, 4, 5, 6

## 691243100007
designator J?  (value not drawn)
WR-TBL Series 2431 Vertical Entry Modular, THT, pitch 3.5mm, 07p; Manufacturer: Wurth Elektronik; Modularity: No; Rated Current: 10A; Wire Section: 30 to 16 (AWG) 0.05 to 1.31 (mm^2); Working Voltage: 300V (AC); Manufacturer Part Number: 691243100007; Product Series: WR-TBL; ComponentLink1Description: Website Link; ComponentLink1URL: https://www.we-online.com; ComponentLink2Description: Datasheet Link; ComponentLink2URL: https://www.we-online.com/components/products/datasheet/691243100007; Mount: Through Hole; Operating Temperature Min: -30degC; Operating Temperature Max: 120degC; Packaging: Box; Application: Rising Cage Clamp; Number of Pins: 7; Number of Rows: 1; Orientation: Vertical; Lead Pitch: 3.5mm
footprint 691243100007
pins: 1, 2, 3, 4, 5, 6, 7

## 691243100008
designator J?  (value not drawn)
WR-TBL Series 2431 Vertical Entry Modular, THT, pitch 3.5mm, 08p; Manufacturer: Wurth Elektronik; Modularity: No; Rated Current: 10A; Wire Section: 30 to 16 (AWG) 0.05 to 1.31 (mm^2); Working Voltage: 300V (AC); Manufacturer Part Number: 691243100008; Product Series: WR-TBL; ComponentLink1Description: Website Link; ComponentLink1URL: https://www.we-online.com; ComponentLink2Description: Datasheet Link; ComponentLink2URL: https://www.we-online.com/components/products/datasheet/691243100008; Mount: Through Hole; Operating Temperature Min: -30degC; Operating Temperature Max: 120degC; Packaging: Box; Application: Rising Cage Clamp; Number of Pins: 8; Number of Rows: 1; Orientation: Vertical; Lead Pitch: 3.5mm
footprint 691243100008
pins: 1, 2, 3, 4, 5, 6, 7, 8